# EAGLE library part PAD/TOUCH/WHEEL (library audioint)
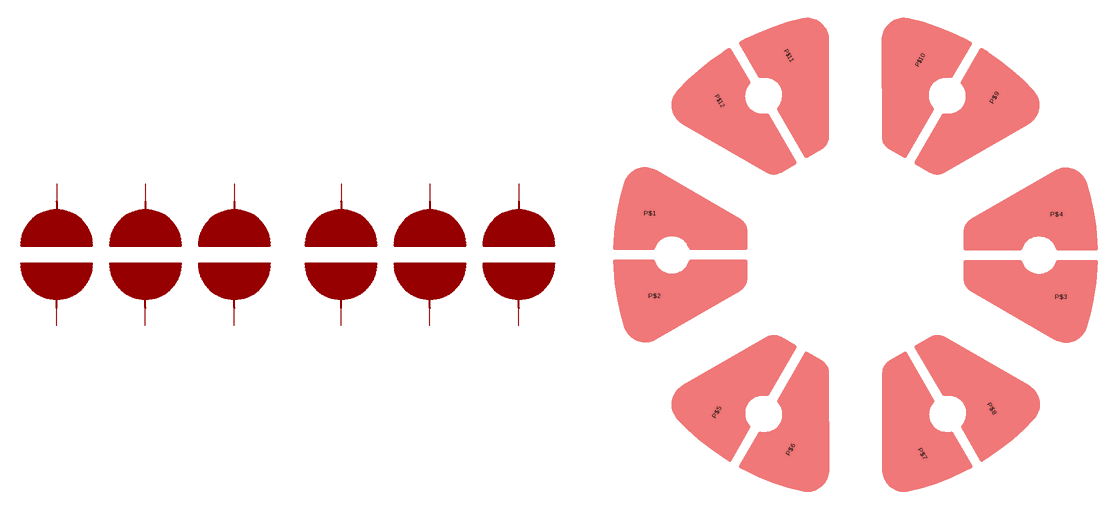
[diagram p22: symbol with the pads of PAD/TOUCH/WHEEL; footprint PAD/TOUCH/WHEEL]

Designator prefix -; gates G$1=PAD/TOUCH G$2=PAD/TOUCH G$3=PAD/TOUCH G$4=PAD/TOUCH G$5=PAD/TOUCH G$6=PAD/TOUCH

## PAD/TOUCH/WHEEL  [PAD/TOUCH/WHEEL]
P$1  G$1:P$1
P$2  G$1:P$2
P$3  G$2:P$1
P$4  G$2:P$2
P$5  G$3:P$1
P$6  G$3:P$2
P$7  G$4:P$1
P$8  G$4:P$2
P$9  G$5:P$1
P$10  G$5:P$2
P$11  G$6:P$1
P$12  G$6:P$2

## Footprint PAD/TOUCH/WHEEL (pad centres in mm)
smd 1.016 x 0.508: P$1 -15.926,3.226; P$2 -15.57,-3.175; P$3 15.926,-3.251; P$4 15.57,3.15
smd 1.016 x 0.508 rotated 60: P$5 -10.753,-12.187; P$6 -5.032,-15.079
smd 1.016 x 0.508 rotated 120: P$7 5.198,-15.413; P$8 10.564,-11.904
smd 1.016 x 0.508 rotated 240: P$9 10.753,12.187; P$10 5.032,15.079
smd 1.016 x 0.508 rotated 300: P$11 -5.173,15.413; P$12 -10.538,11.904